# Altium schematic symbol library RC2010JK-070RL.SchLib: 2 symbols
Pins are listed as number, name and electrical type; pins without a type are passive.

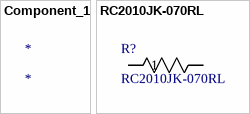
[diagram p0: symbols Component_1 to RC2010JK-070RL]

## Component_1
designator *

## RC2010JK-070RL
designator R?
No Description Available; Manufacturer_Name: Yageo; Copyright: Copyright (C) 2025 Ultra Librarian. All rights reserved.; Manufacturer_Part_Number: RC2010JK-070RL
footprint RES_RC2010_YAG
pins: 1, 2